# Altium schematic symbol library lib-ic.SchLib: 64 symbols
Pins are listed as number, name and electrical type; pins without a type are passive.

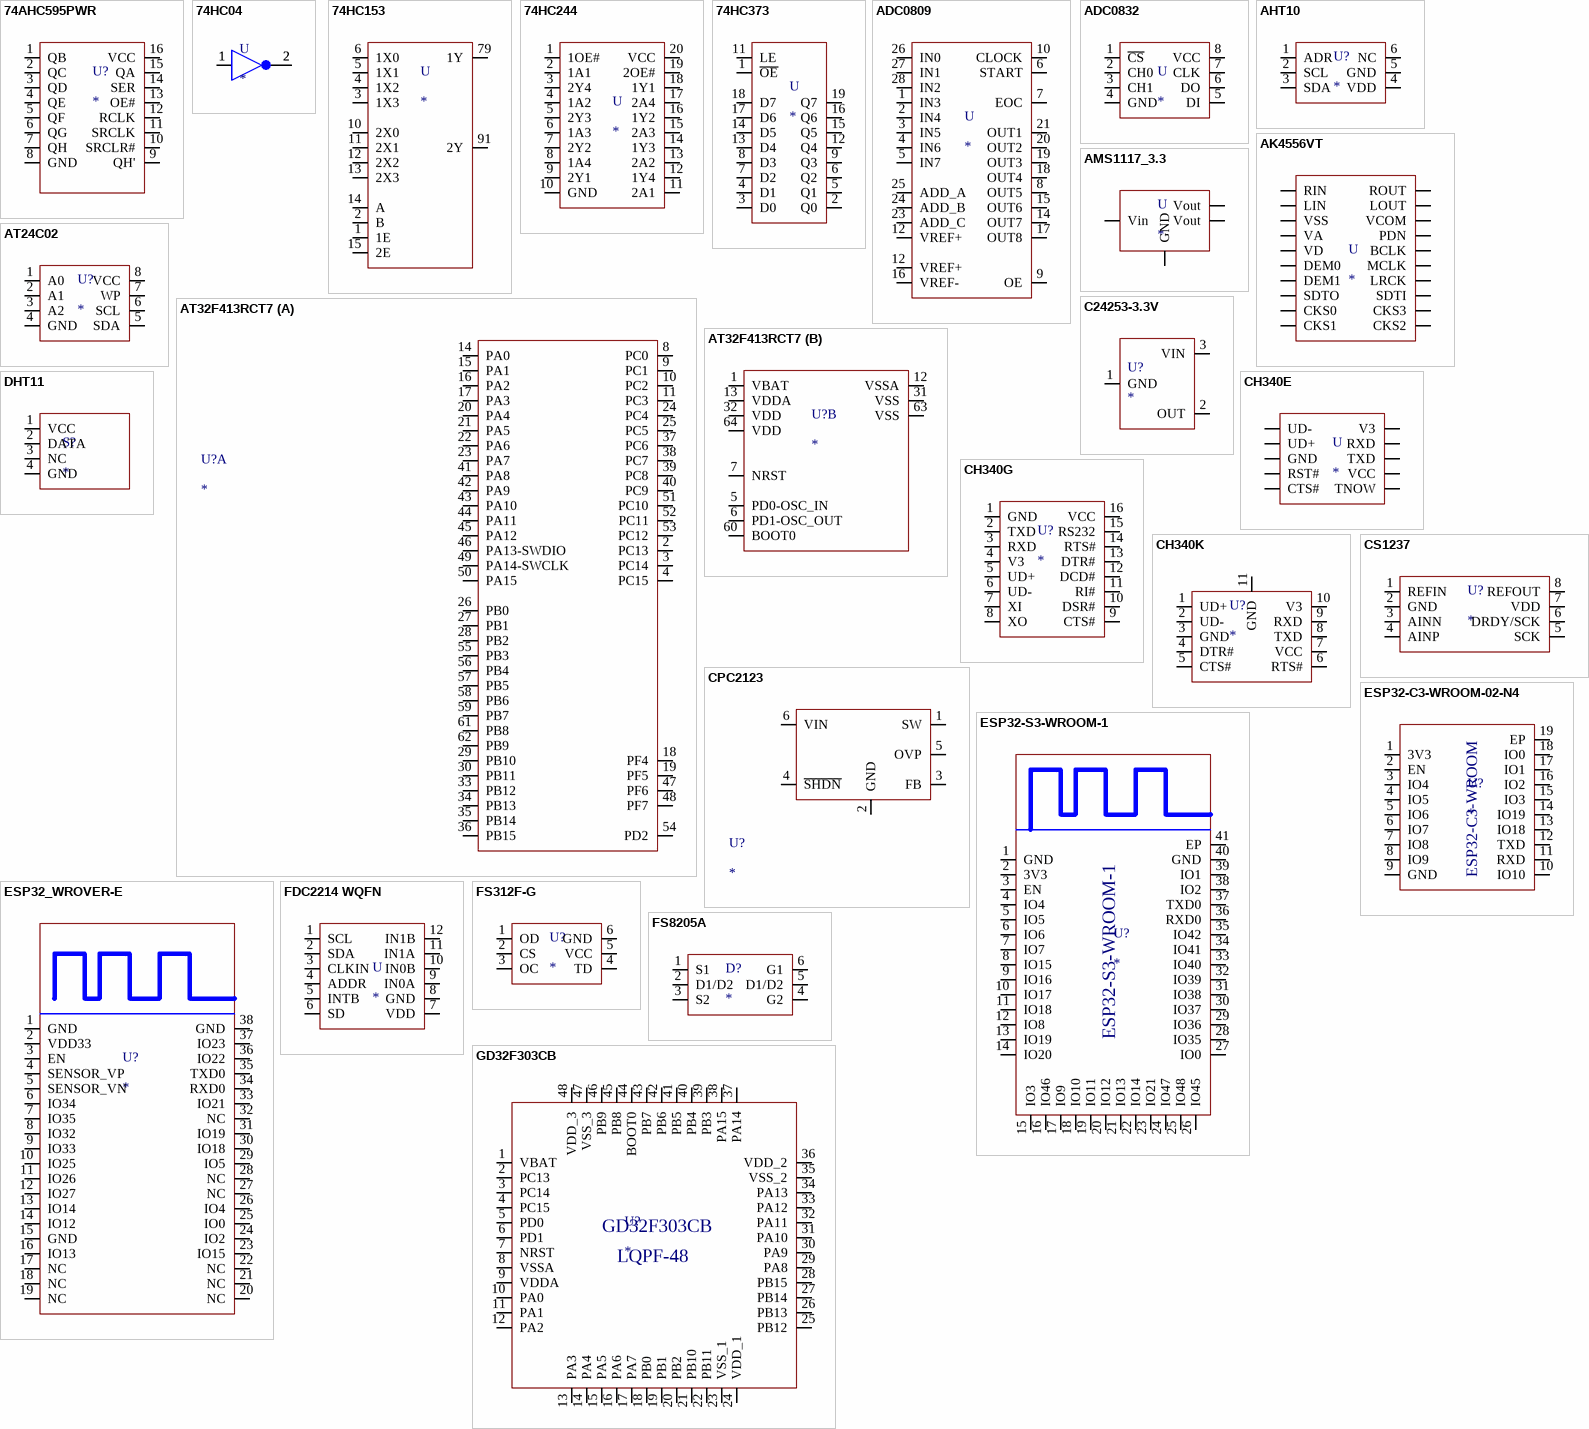
[diagram p0: symbols 74AHC595PWR to GD32F303CB]

## 74AHC595PWR
designator U?
SN74AHCT595DR-C133793; ComponentLink1Description: New link; ComponentLink1URL: https://item.szlcsc.com/145100.html
footprint SOIC_16
pins: 1 QB, 2 QC, 3 QD, 4 QE, 5 QF, 6 QG, 7 QH, 8 GND, 9 QH', 10 SRCLR#, 11 SRCLK, 12 RCLK, 13 OE#, 14 SER, 15 QA, 16 VCC

## 74HC04
designator U
pins: 1, 1, 2, 2

## 74HC153
designator U
pins: 1 1E, 2 B, 3 1X3, 4 1X2, 5 1X1, 6 1X0, 10 2X0, 11 2X1, 12 2X2, 13 2X3, 14 A, 15 2E, 79 1Y, 91 2Y

## 74HC244
designator U
SN74HC244DWR
footprint SOIC_20_5.3
pins: 1 1OE#, 2 1A1, 3 2Y4, 4 1A2, 5 2Y3, 6 1A3, 7 2Y2, 8 1A4, 9 2Y1, 10 GND, 11 2A1, 12 1Y4, 13 2A2, 14 1Y3, 15 2A3, 16 1Y2, 17 2A4, 18 1Y1, 19 2OE#, 20 VCC

## 74HC373
designator U
pins: 1 ~{OE}, 2 Q0, 3 D0, 4 D1, 5 Q1, 6 Q2, 7 D2, 8 D3, 9 Q3, 11 LE, 12 Q4, 13 D4, 14 D5, 15 Q5, 16 Q6, 17 D6, 18 D7, 19 Q7

## ADC0809
designator U
pins: 1 IN3, 2 IN4, 3 IN5, 4 IN6, 5 IN7, 6 START, 7 EOC, 8 OUT5, 9 OE, 10 CLOCK, 12 VREF+, 12 VREF+, 14 OUT7, 15 OUT6, 16 VREF-, 17 OUT8, 18 OUT4, 19 OUT3, 20 OUT2, 21 OUT1, 23 ADD_C, 24 ADD_B, 25 ADD_A, 26 IN0, 27 IN1, 28 IN2

## ADC0832
designator U
IC-ADC
pins: 1 ~{CS}, 2 CH0, 3 CH1, 4 GND, 5 DI, 6 DO, 7 CLK, 8 VCC

## AHT10
designator U?
立创商城-C368909
footprint AHT10
pins: 1 ADR, 2 SCL, 3 SDA, 4 VDD, 5 GND, 6 NC

## AK4556VT
designator U
I2S/AD/DA
footprint SSOP_20 (0.65)
pins: 1 RIN, 2 LIN, 3 VSS, 4 VA, 5 VD, 6 DEM0, 7 DEM1, 8 SDTO, 9 CKS0, 10 CKS1, 11 CKS2, 12 CKS3, 13 SDTI, 14 LRCK, 15 MCLK, 16 BCLK, 17 PDN, 18 VCOM, 19 LOUT, 20 ROUT

## AMS1117_3.3
designator U
LDO  3.3v
footprint SOT223_3
pins: 1 GND, 2 Vout, 3 Vin, 4 Vout

## AT24C02
designator U?
立创商城-C688857
footprint SOP_8 (SOP, 8-Leads, Body 5.05x3.90mm, Pitch 1.27mm, IPC Medium Density)
pins: 1 A0, 2 A1, 3 A2, 4 GND, 5 SDA, 6 SCL, 7 WP, 8 VCC

## AT32F413RCT7
designator U?
雅特力-MCU
footprint LQFP_64_10X10
part A pins: 2 PC13, 3 PC14, 4 PC15, 8 PC0, 9 PC1, 10 PC2, 11 PC3, 14 PA0, 15 PA1, 16 PA2, 17 PA3, 18 PF4, 19 PF5, 20 PA4, 21 PA5, 22 PA6, 23 PA7, 24 PC4, 25 PC5, 26 PB0, 27 PB1, 28 PB2, 29 PB10, 30 PB11, 33 PB12, 34 PB13, 35 PB14, 36 PB15, 37 PC6, 38 PC7, 39 PC8, 40 PC9, 41 PA8, 42 PA9, 43 PA10, 44 PA11, 45 PA12, 46 PA13-SWDIO, 47 PF6, 48 PF7, 49 PA14-SWCLK, 50 PA15, 51 PC10, 52 PC11, 53 PC12, 54 PD2, 55 PB3, 56 PB4, 57 PB5, 58 PB6, 59 PB7, 61 PB8, 62 PB9
part B pins: 1 VBAT, 5 PD0-OSC_IN, 6 PD1-OSC_OUT, 7 NRST, 12 VSSA, 13 VDDA, 31 VSS, 32 VDD, 60 BOOT0, 63 VSS, 64 VDD

## C24253-3.3V
designator U?
立创商城-C24253
footprint SOT89
pins: 1 GND, 2 OUT, 3 VIN

## CH340E
designator U
USB->TTL
footprint TSSOP_10 (0.5)
pins: 1 UD+, 2 UD-, 3 GND, 4 RST#, 5 CTS#, 6 TNOW, 7 VCC, 8 TXD, 9 RXD, 10 V3

## CH340G
designator U?
USB->TTL
footprint SOIC_16
pins: 1 GND (power), 2 TXD, 3 RXD, 4 V3, 5 UD+, 6 UD-, 7 XI, 8 XO, 9 CTS#, 10 DSR#, 11 RI#, 12 DCD#, 13 DTR#, 14 RTS#, 15 RS232, 16 VCC (power)

## CH340K
designator U?
USB->TTL
footprint ESSOP-10-150mil-1mm
pins: 1 UD+, 2 UD-, 3 GND, 4 DTR#, 5 CTS#, 6 RTS#, 7 VCC, 8 TXD, 9 RXD, 10 V3, 11 GND

## CPC2123
designator U?
DC-DC LED
footprint SOT23_6
pins: 1 SW, 2 GND, 3 FB, 4 ~{SHDN}, 5 OVP, 6 VIN

## CS1237
designator U?
立创商城-C77801
footprint SOIC_8
pins: 1 REFIN, 2 GND, 3 AINN, 4 AINP, 5 SCK, 6 DRDY/SCK, 7 VDD, 8 REFOUT

## DHT11
designator S?
footprint DHT11
pins: 1 VCC, 2 DATA, 3 NC, 4 GND

## ESP32-C3-WROOM-02-N4
designator U?
ESP32-C3-WROOM-02-N4
footprint ESP32-C3-WROOM-02-N4
pins: 1 3V3, 2 EN, 3 IO4, 4 IO5, 5 IO6, 6 IO7, 7 IO8, 8 IO9, 9 GND, 10 IO10, 11 RXD, 12 TXD, 13 IO18, 14 IO19, 15 IO3, 16 IO2, 17 IO1, 18 IO0, 19 EP
text: ESP32-C3-WROOM

## ESP32-S3-WROOM-1
designator U?
乐鑫 ESP32-S3 模组
footprint ESP32-S3-WROOM-1
pins: 1 GND, 2 3V3, 3 EN, 4 IO4, 5 IO5, 6 IO6, 7 IO7, 8 IO15, 9 IO16, 10 IO17, 11 IO18, 12 IO8, 13 IO19, 14 IO20, 15 IO3, 16 IO46, 17 IO9, 18 IO10, 19 IO11, 20 IO12, 21 IO13, 22 IO14, 23 IO21, 24 IO47, 25 IO48, 26 IO45, 27 IO0, 28 IO35, 29 IO36, 30 IO37, 31 IO38, 32 IO39, 33 IO40, 34 IO41, 35 IO42, 36 RXD0, 37 TXD0, 38 IO2, 39 IO1, 40 GND, 41 EP

## ESP32_WROVER-E
designator U?
乐鑫 ESP32 模组
footprint ESP32_WROVER-E
pins: 1 GND, 2 VDD33, 3 EN, 4 SENSOR_VP, 5 SENSOR_VN, 6 IO34, 7 IO35, 8 IO32, 9 IO33, 10 IO25, 11 IO26, 12 IO27, 13 IO14, 14 IO12, 15 GND, 16 IO13, 17 NC, 18 NC, 19 NC, 20 NC, 21 NC, 22 NC, 23 IO15, 24 IO2, 25 IO0, 26 IO4, 27 NC, 28 NC, 29 IO5, 30 IO18, 31 IO19, 32 NC, 33 IO21, 34 RXD0, 35 TXD0, 36 IO22, 37 IO23, 38 GND

## FDC2214 WQFN
designator U
pins: 1 SCL, 2 SDA, 3 CLKIN, 4 ADDR, 5 INTB, 6 SD, 7 VDD, 8 GND, 9 IN0A, 10 IN0B, 11 IN1A, 12 IN1B

## FS312F-G
designator U?
footprint SOT23_6
pins: 1 OD, 2 CS, 3 OC, 4 TD, 5 VCC, 6 GND

## FS8205A
designator D?
footprint SOT23_6
pins: 1 S1, 2 D1/D2, 3 S2, 4 G2, 5 D1/D2, 6 G1

## GD32F303CB
designator U?
GD32-MCU
pins: 1 VBAT, 2 PC13, 3 PC14, 4 PC15, 5 PD0, 6 PD1, 7 NRST, 8 VSSA, 9 VDDA, 10 PA0, 11 PA1, 12 PA2, 13 PA3, 14 PA4, 15 PA5, 16 PA6, 17 PA7, 18 PB0, 19 PB1, 20 PB2, 21 PB10, 22 PB11, 23 VSS_1, 24 VDD_1, 25 PB12, 26 PB13, 27 PB14, 28 PB15, 29 PA8, 30 PA9, 31 PA10, 32 PA11, 33 PA12, 34 PA13, 35 VSS_2, 36 VDD_2, 37 PA14, 38 PA15, 39 PB3, 40 PB4, 41 PB5, 42 PB6, 43 PB7, 44 BOOT0, 45 PB8, 46 PB9, 47 VSS_3, 48 VDD_3
text: LQPF-48

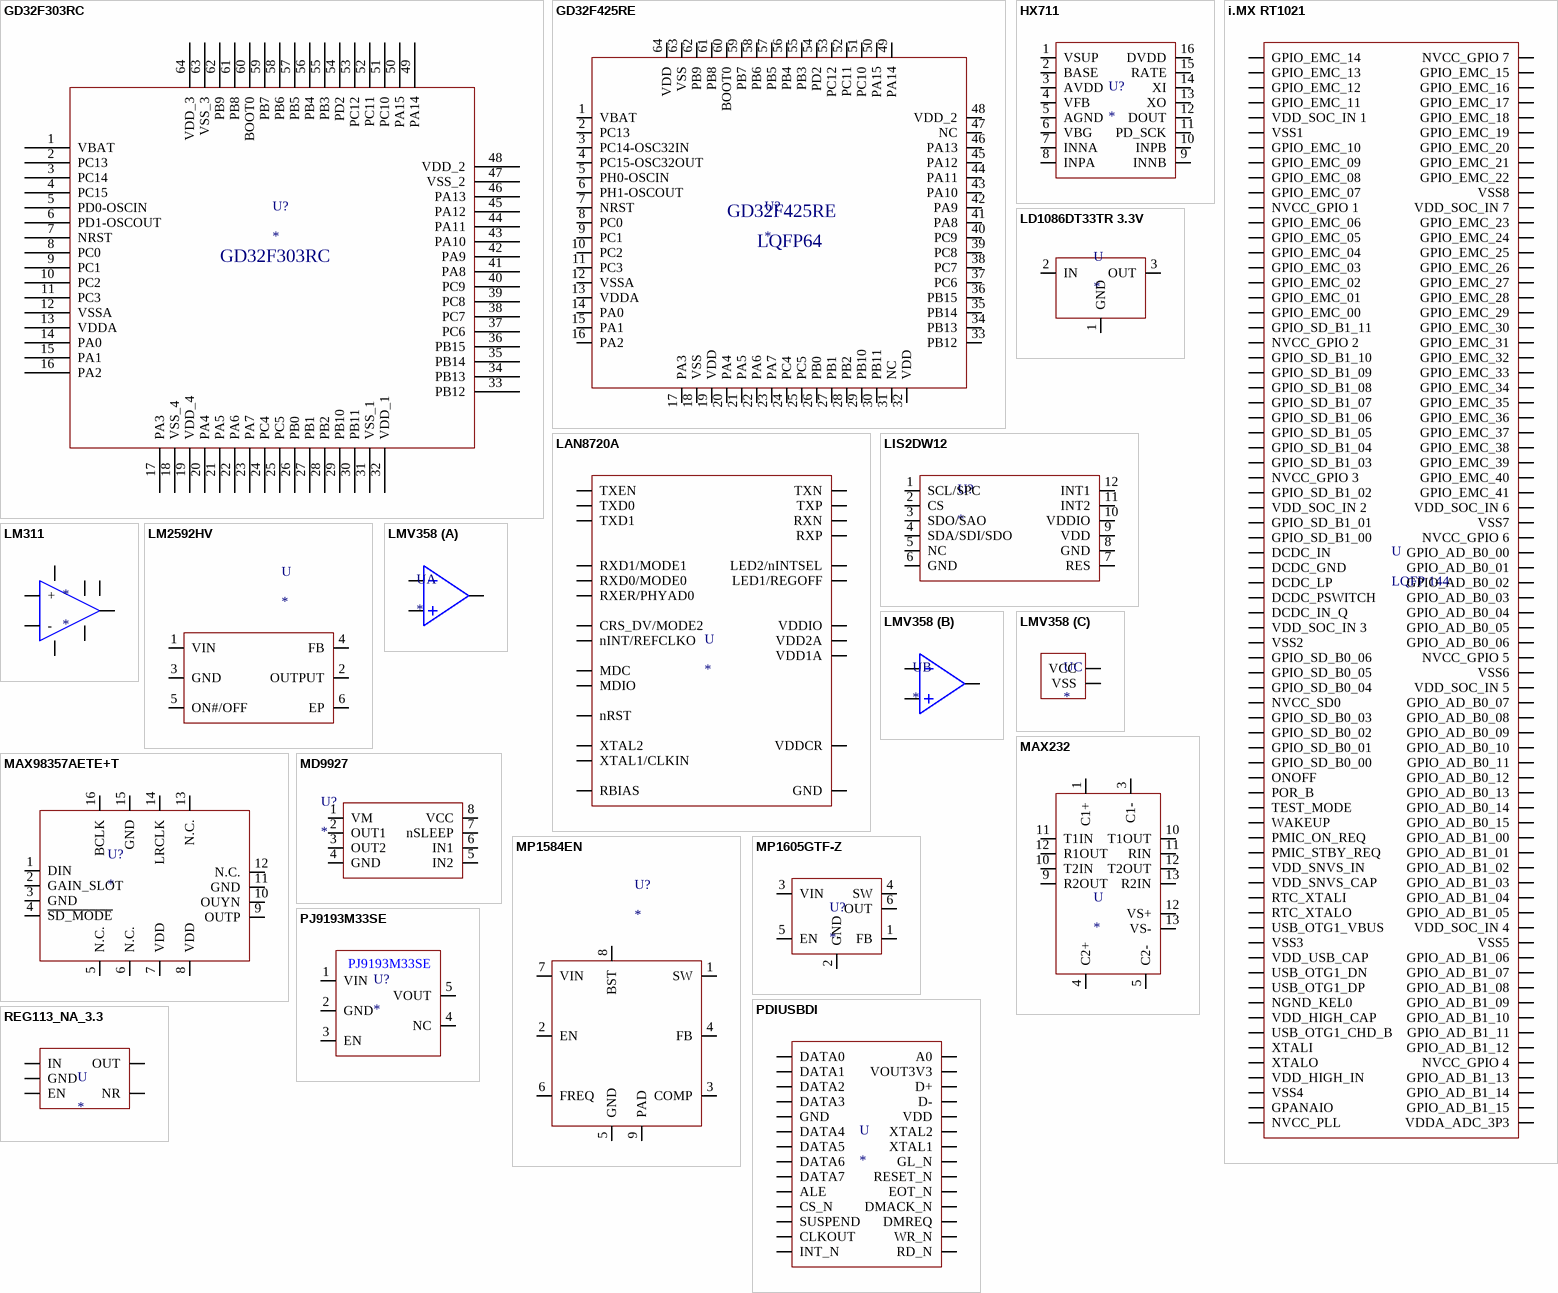
[diagram p1: symbols GD32F303RC to REG113_NA_3.3]

## GD32F303RC
designator U?
GD32-MCU
footprint LQFP_64_10X10
pins: 1 VBAT, 2 PC13, 3 PC14, 4 PC15, 5 PD0-OSCIN, 6 PD1-OSCOUT, 7 NRST, 8 PC0, 9 PC1, 10 PC2, 11 PC3, 12 VSSA, 13 VDDA, 14 PA0, 15 PA1, 16 PA2, 17 PA3, 18 VSS_4, 19 VDD_4, 20 PA4, 21 PA5, 22 PA6, 23 PA7, 24 PC4, 25 PC5, 26 PB0, 27 PB1, 28 PB2, 29 PB10, 30 PB11, 31 VSS_1, 32 VDD_1, 33 PB12, 34 PB13, 35 PB14, 36 PB15, 37 PC6, 38 PC7, 39 PC8, 40 PC9, 41 PA8, 42 PA9, 43 PA10, 44 PA11, 45 PA12, 46 PA13, 47 VSS_2, 48 VDD_2, 49 PA14, 50 PA15, 51 PC10, 52 PC11, 53 PC12, 54 PD2, 55 PB3, 56 PB4, 57 PB5, 58 PB6, 59 PB7, 60 BOOT0, 61 PB8, 62 PB9, 63 VSS_3, 64 VDD_3

## GD32F425RE
designator U?
GD32-MCU
footprint LQFP_64_10X10
pins: 1 VBAT, 2 PC13, 3 PC14-OSC32IN, 4 PC15-OSC32OUT, 5 PH0-OSCIN, 6 PH1-OSCOUT, 7 NRST, 8 PC0, 9 PC1, 10 PC2, 11 PC3, 12 VSSA, 13 VDDA, 14 PA0, 15 PA1, 16 PA2, 17 PA3, 18 VSS, 19 VDD, 20 PA4, 21 PA5, 22 PA6, 23 PA7, 24 PC4, 25 PC5, 26 PB0, 27 PB1, 28 PB2, 29 PB10, 30 PB11, 31 NC, 32 VDD, 33 PB12, 34 PB13, 35 PB14, 36 PB15, 37 PC6, 38 PC7, 39 PC8, 40 PC9, 41 PA8, 42 PA9, 43 PA10, 44 PA11, 45 PA12, 46 PA13, 47 NC, 48 VDD_2, 49 PA14, 50 PA15, 51 PC10, 52 PC11, 53 PC12, 54 PD2, 55 PB3, 56 PB4, 57 PB5, 58 PB6, 59 PB7, 60 BOOT0, 61 PB8, 62 PB9, 63 VSS, 64 VDD
text: LQFP64

## HX711
designator U?
立创商城-C43656
footprint SOIC_16
pins: 1 VSUP, 2 BASE, 3 AVDD, 4 VFB, 5 AGND, 6 VBG, 7 INNA, 8 INPA, 9 INNB, 10 INPB, 11 PD_SCK, 12 DOUT, 13 XO, 14 XI, 15 RATE, 16 DVDD

## i.MX RT1021
designator U, comment LQFP 144
NXP-MCU
footprint LQFP_144_20X20
pins: 1 GPIO_EMC_14, 2 GPIO_EMC_13, 3 GPIO_EMC_12, 4 GPIO_EMC_11, 5 VDD_SOC_IN 1, 6 VSS1, 7 GPIO_EMC_10, 8 GPIO_EMC_09, 9 GPIO_EMC_08, 10 GPIO_EMC_07, 11 NVCC_GPIO 1, 12 GPIO_EMC_06, 13 GPIO_EMC_05, 14 GPIO_EMC_04, 15 GPIO_EMC_03, 16 GPIO_EMC_02, 17 GPIO_EMC_01, 18 GPIO_EMC_00, 19 GPIO_SD_B1_11, 20 NVCC_GPIO 2, 21 GPIO_SD_B1_10, 22 GPIO_SD_B1_09, 23 GPIO_SD_B1_08, 24 GPIO_SD_B1_07, 25 GPIO_SD_B1_06, 26 GPIO_SD_B1_05, 27 GPIO_SD_B1_04, 28 GPIO_SD_B1_03, 29 NVCC_GPIO 3, 30 GPIO_SD_B1_02, 31 VDD_SOC_IN 2, 32 GPIO_SD_B1_01, 33 GPIO_SD_B1_00, 34 DCDC_IN, 35 DCDC_GND, 36 DCDC_LP, 37 DCDC_PSWITCH, 38 DCDC_IN_Q, 39 VDD_SOC_IN 3, 40 VSS2, 41 GPIO_SD_B0_06, 42 GPIO_SD_B0_05, 43 GPIO_SD_B0_04, 44 NVCC_SD0, 45 GPIO_SD_B0_03, 46 GPIO_SD_B0_02, 47 GPIO_SD_B0_01, 48 GPIO_SD_B0_00, 49 ONOFF, 50 POR_B, 51 TEST_MODE, 52 WAKEUP, 53 PMIC_ON_REQ, 54 PMIC_STBY_REQ, 55 VDD_SNVS_IN, 56 VDD_SNVS_CAP, 57 RTC_XTALI, 58 RTC_XTALO, 59 USB_OTG1_VBUS, 60 VSS3, 61 VDD_USB_CAP, 62 USB_OTG1_DN, 63 USB_OTG1_DP, 64 NGND_KEL0, 65 VDD_HIGH_CAP, 66 USB_OTG1_CHD_B, 67 XTALI, 68 XTALO, 69 VDD_HIGH_IN, 70 VSS4, 71 GPANAIO, 72 NVCC_PLL, 73 VDDA_ADC_3P3, 74 GPIO_AD_B1_15, 75 GPIO_AD_B1_14, 76 GPIO_AD_B1_13, 77 NVCC_GPIO 4, 78 GPIO_AD_B1_12, 79 GPIO_AD_B1_11, 80 GPIO_AD_B1_10, 81 GPIO_AD_B1_09, 82 GPIO_AD_B1_08, 83 GPIO_AD_B1_07, 84 GPIO_AD_B1_06, 85 VSS5, 86 VDD_SOC_IN 4, 87 GPIO_AD_B1_05, 88 GPIO_AD_B1_04, 89 GPIO_AD_B1_03, 90 GPIO_AD_B1_02, 91 GPIO_AD_B1_01, 92 GPIO_AD_B1_00, 93 GPIO_AD_B0_15, 94 GPIO_AD_B0_14, 95 GPIO_AD_B0_13, 96 GPIO_AD_B0_12, 97 GPIO_AD_B0_11, 98 GPIO_AD_B0_10, 99 GPIO_AD_B0_09, 100 GPIO_AD_B0_08, 101 GPIO_AD_B0_07, 102 VDD_SOC_IN 5, 103 VSS6, 104 NVCC_GPIO 5, 105 GPIO_AD_B0_06, 106 GPIO_AD_B0_05, 107 GPIO_AD_B0_04, 108 GPIO_AD_B0_03, 109 GPIO_AD_B0_02, 110 GPIO_AD_B0_01, 111 GPIO_AD_B0_00, 112 NVCC_GPIO 6, 113 VSS7, 114 VDD_SOC_IN 6, 115 GPIO_EMC_41, 116 GPIO_EMC_40, 117 GPIO_EMC_39, 118 GPIO_EMC_38, 119 GPIO_EMC_37, 120 GPIO_EMC_36, 121 GPIO_EMC_35, 122 GPIO_EMC_34, 123 GPIO_EMC_33, 124 GPIO_EMC_32, 125 GPIO_EMC_31, 126 GPIO_EMC_30, 127 GPIO_EMC_29, 128 GPIO_EMC_28, 129 GPIO_EMC_27, 130 GPIO_EMC_26, 131 GPIO_EMC_25, 132 GPIO_EMC_24, 133 GPIO_EMC_23, 134 VDD_SOC_IN 7, 135 VSS8, 136 GPIO_EMC_22, 137 GPIO_EMC_21, 138 GPIO_EMC_20, 139 GPIO_EMC_19, 140 GPIO_EMC_18, 141 GPIO_EMC_17, 142 GPIO_EMC_16, 143 GPIO_EMC_15, 144 NVCC_GPIO 7

## LAN8720A
designator U
LAN 以太网
footprint QFN25 (QFN, 24-Leads, Body 4.80x4.80mm, Pitch 0.50mm, Thermal Pad 2.60x2.70mm, IPC Medium Density)
pins: 1 VDD2A, 2 LED2/nINTSEL, 3 LED1/REGOFF, 4 XTAL2, 5 XTAL1/CLKIN, 6 VDDCR, 7 RXD1/MODE1, 8 RXD0/MODE0, 9 VDDIO, 10 RXER/PHYAD0, 11 CRS_DV/MODE2, 12 MDIO, 13 MDC, 14 nINT/REFCLKO, 15 nRST, 16 TXEN, 17 TXD0, 18 TXD1, 19 VDD1A, 20 TXN, 21 TXP, 22 RXN, 23 RXP, 24 RBIAS, 25 GND

## LD1086DT33TR 3.3V
designator U
LDO ST 3.3V C12051
footprint TO252_2
pins: 1 GND, 2 IN, 3 OUT

## LIS2DW12
designator U?
加速度计-立创商城C189624
footprint LIS2DW12 (LGA-12(2x2))
pins: 1 SCL/SPC, 2 CS, 3 SDO/SAO, 4 SDA/SDI/SDO, 5 NC, 6 GND, 7 RES, 8 GND, 9 VDD, 10 VDDIO, 11 INT2, 12 INT1

## LM311
designator *
pins: 1, 2 +, 3 -, 4, 5, 6, 7, 8 6

## LM2592HV
designator U
TI DCDC ADJ_5V C477973
pins: 1 VIN, 2 OUTPUT, 3 GND, 4 FB, 5 ON#/OFF, 6 EP

## LMV358
designator U
轨对轨运放
footprint SOIC_8
part A pins: 1 AOUT, 2 A-, 3 A+
part B pins: 5 B+, 6 B-, 7 BOUT
part C pins: 4 VSS, 8 VCC

## MAX232
designator U
pins: 1 C1+, 3 C1-, 4 C2+, 5 C2-, 9 R2OUT, 10 T2IN, 10 T1OUT, 11 T1IN, 11 RIN, 12 R1OUT, 12 T2OUT, 12 VS+, 13 R2IN, 13 VS-

## MAX98357AETE+T
designator U?
pins: 1 DIN, 2 GAIN_SLOT, 3 GND, 4 ~{SD_MODE}, 5 N.C., 6 N.C., 7 VDD, 8 VDD, 9 OUTP, 10 OUYN, 11 GND, 12 N.C., 13 N.C., 14 LRCLK, 15 GND, 16 BCLK

## MD9927
designator U?
电机驱动IC 立创-C2684787
footprint SOIC_8
pins: 1 VM, 2 OUT1, 3 OUT2, 4 GND, 5 IN2, 6 IN1, 7 nSLEEP, 8 VCC

## MP1584EN
designator U?
电源IC
footprint SOIC_8
pins: 1 SW, 2 EN, 3 COMP, 4 FB, 5 GND, 6 FREQ, 7 VIN, 8 BST, 9 PAD

## MP1605GTF-Z
designator U?
DC-DC电源芯片 立创商城-C5129836
footprint SOT-563
pins: 1 FB, 2 GND, 3 VIN, 4 SW, 5 EN, 6 OUT

## PDIUSBDI
designator U
USB-IC
footprint TSSOP_28 (0.65)
pins: 1 DATA0, 2 DATA1, 3 DATA2, 4 DATA3, 5 GND, 6 DATA4, 7 DATA5, 8 DATA6, 9 DATA7, 10 ALE, 11 CS_N, 12 SUSPEND, 13 CLKOUT, 14 INT_N, 15 RD_N, 16 WR_N, 17 DMREQ, 18 DMACK_N, 19 EOT_N, 20 RESET_N, 21 GL_N, 22 XTAL1, 23 XTAL2, 24 VDD, 25 D-, 26 D+, 27 VOUT3V3, 28 A0

## PJ9193M33SE
designator U?
LDO C686644
footprint SOT23_5
pins: 1 VIN, 2 GND, 3 EN, 4 NC, 5 VOUT

## REG113_NA_3.3
designator U
LDO
footprint SOT23_5
pins: 1 IN, 2 GND, 3 EN, 4 NR, 5 OUT

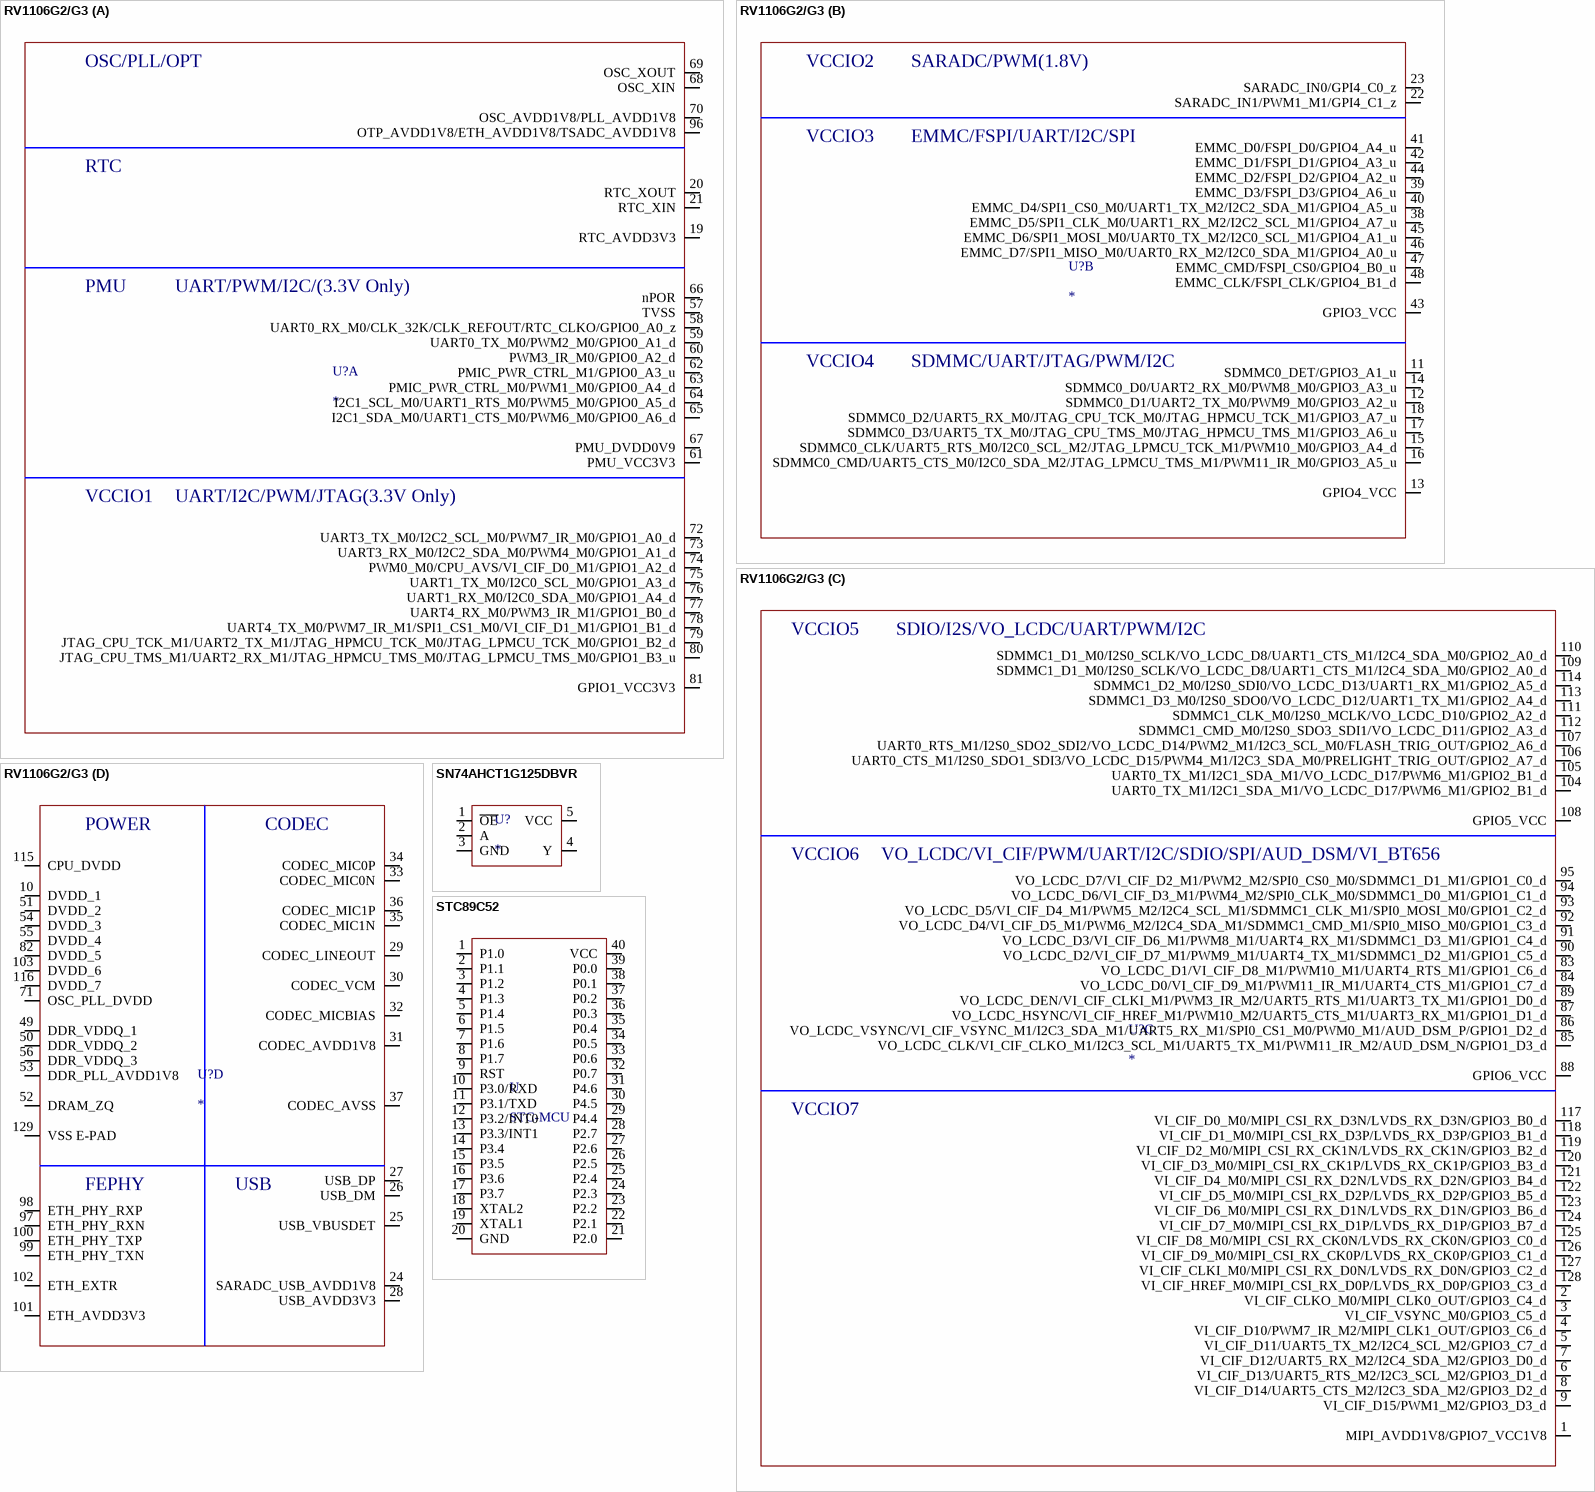
[diagram p2: symbols RV1106G2/G3 to STC89C52]

## RV1106G2/G3
designator U?
瑞芯微 RV1106
footprint QFN-128
part A pins: 19 RTC_AVDD3V3, 20 RTC_XOUT, 21 RTC_XIN, 57 TVSS, 58 UART0_RX_M0/CLK_32K/CLK_REFOUT/RTC_CLKO/GPIO0_A0_z, 59 UART0_TX_M0/PWM2_M0/GPIO0_A1_d, 60 PWM3_IR_M0/GPIO0_A2_d, 61 PMU_VCC3V3, 62 PMIC_PWR_CTRL_M1/GPIO0_A3_u, 63 PMIC_PWR_CTRL_M0/PWM1_M0/GPIO0_A4_d, 64 I2C1_SCL_M0/UART1_RTS_M0/PWM5_M0/GPIO0_A5_d, 65 I2C1_SDA_M0/UART1_CTS_M0/PWM6_M0/GPIO0_A6_d, 66 nPOR, 67 PMU_DVDD0V9, 68 OSC_XIN, 69 OSC_XOUT, 70 OSC_AVDD1V8/PLL_AVDD1V8, 72 UART3_TX_M0/I2C2_SCL_M0/PWM7_IR_M0/GPIO1_A0_d, 73 UART3_RX_M0/I2C2_SDA_M0/PWM4_M0/GPIO1_A1_d, 74 PWM0_M0/CPU_AVS/VI_CIF_D0_M1/GPIO1_A2_d, 75 UART1_TX_M0/I2C0_SCL_M0/GPIO1_A3_d, 76 UART1_RX_M0/I2C0_SDA_M0/GPIO1_A4_d, 77 UART4_RX_M0/PWM3_IR_M1/GPIO1_B0_d, 78 UART4_TX_M0/PWM7_IR_M1/SPI1_CS1_M0/VI_CIF_D1_M1/GPIO1_B1_d, 79 JTAG_CPU_TCK_M1/UART2_TX_M1/JTAG_HPMCU_TCK_M0/JTAG_LPMCU_TCK_M0/GPIO1_B2_d, 80 JTAG_CPU_TMS_M1/UART2_RX_M1/JTAG_HPMCU_TMS_M0/JTAG_LPMCU_TMS_M0/GPIO1_B3_u, 81 GPIO1_VCC3V3, 96 OTP_AVDD1V8/ETH_AVDD1V8/TSADC_AVDD1V8
part B pins: 11 SDMMC0_DET/GPIO3_A1_u, 12 SDMMC0_D1/UART2_TX_M0/PWM9_M0/GPIO3_A2_u, 13 GPIO4_VCC, 14 SDMMC0_D0/UART2_RX_M0/PWM8_M0/GPIO3_A3_u, 15 SDMMC0_CLK/UART5_RTS_M0/I2C0_SCL_M2/JTAG_LPMCU_TCK_M1/PWM10_M0/GPIO3_A4_d, 16 SDMMC0_CMD/UART5_CTS_M0/I2C0_SDA_M2/JTAG_LPMCU_TMS_M1/PWM11_IR_M0/GPIO3_A5_u, 17 SDMMC0_D3/UART5_TX_M0/JTAG_CPU_TMS_M0/JTAG_HPMCU_TMS_M1/GPIO3_A6_u, 18 SDMMC0_D2/UART5_RX_M0/JTAG_CPU_TCK_M0/JTAG_HPMCU_TCK_M1/GPIO3_A7_u, 22 SARADC_IN1/PWM1_M1/GPI4_C1_z, 23 SARADC_IN0/GPI4_C0_z, 38 EMMC_D5/SPI1_CLK_M0/UART1_RX_M2/I2C2_SCL_M1/GPIO4_A7_u, 39 EMMC_D3/FSPI_D3/GPIO4_A6_u, 40 EMMC_D4/SPI1_CS0_M0/UART1_TX_M2/I2C2_SDA_M1/GPIO4_A5_u, 41 EMMC_D0/FSPI_D0/GPIO4_A4_u, 42 EMMC_D1/FSPI_D1/GPIO4_A3_u, 43 GPIO3_VCC, 44 EMMC_D2/FSPI_D2/GPIO4_A2_u, 45 EMMC_D6/SPI1_MOSI_M0/UART0_TX_M2/I2C0_SCL_M1/GPIO4_A1_u, 46 EMMC_D7/SPI1_MISO_M0/UART0_RX_M2/I2C0_SDA_M1/GPIO4_A0_u, 47 EMMC_CMD/FSPI_CS0/GPIO4_B0_u, 48 EMMC_CLK/FSPI_CLK/GPIO4_B1_d
part C pins: 1 MIPI_AVDD1V8/GPIO7_VCC1V8, 2 VI_CIF_CLKO_M0/MIPI_CLK0_OUT/GPIO3_C4_d, 3 VI_CIF_VSYNC_M0/GPIO3_C5_d, 4 VI_CIF_D10/PWM7_IR_M2/MIPI_CLK1_OUT/GPIO3_C6_d, 5 VI_CIF_D11/UART5_TX_M2/I2C4_SCL_M2/GPIO3_C7_d, 6 VI_CIF_D13/UART5_RTS_M2/I2C3_SCL_M2/GPIO3_D1_d, 7 VI_CIF_D12/UART5_RX_M2/I2C4_SDA_M2/GPIO3_D0_d, 8 VI_CIF_D14/UART5_CTS_M2/I2C3_SDA_M2/GPIO3_D2_d, 9 VI_CIF_D15/PWM1_M2/GPIO3_D3_d, 83 VO_LCDC_D1/VI_CIF_D8_M1/PWM10_M1/UART4_RTS_M1/GPIO1_C6_d, 84 VO_LCDC_D0/VI_CIF_D9_M1/PWM11_IR_M1/UART4_CTS_M1/GPIO1_C7_d, 85 VO_LCDC_CLK/VI_CIF_CLKO_M1/I2C3_SCL_M1/UART5_TX_M1/PWM11_IR_M2/AUD_DSM_N/GPIO1_D3_d, 86 VO_LCDC_VSYNC/VI_CIF_VSYNC_M1/I2C3_SDA_M1/UART5_RX_M1/SPI0_CS1_M0/PWM0_M1/AUD_DSM_P/GPIO1_D2_d, 87 VO_LCDC_HSYNC/VI_CIF_HREF_M1/PWM10_M2/UART5_CTS_M1/UART3_RX_M1/GPIO1_D1_d, 88 GPIO6_VCC, 89 VO_LCDC_DEN/VI_CIF_CLKI_M1/PWM3_IR_M2/UART5_RTS_M1/UART3_TX_M1/GPIO1_D0_d, 90 VO_LCDC_D2/VI_CIF_D7_M1/PWM9_M1/UART4_TX_M1/SDMMC1_D2_M1/GPIO1_C5_d, 91 VO_LCDC_D3/VI_CIF_D6_M1/PWM8_M1/UART4_RX_M1/SDMMC1_D3_M1/GPIO1_C4_d, 92 VO_LCDC_D4/VI_CIF_D5_M1/PWM6_M2/I2C4_SDA_M1/SDMMC1_CMD_M1/SPI0_MISO_M0/GPIO1_C3_d, 93 VO_LCDC_D5/VI_CIF_D4_M1/PWM5_M2/I2C4_SCL_M1/SDMMC1_CLK_M1/SPI0_MOSI_M0/GPIO1_C2_d, 94 VO_LCDC_D6/VI_CIF_D3_M1/PWM4_M2/SPI0_CLK_M0/SDMMC1_D0_M1/GPIO1_C1_d, 95 VO_LCDC_D7/VI_CIF_D2_M1/PWM2_M2/SPI0_CS0_M0/SDMMC1_D1_M1/GPIO1_C0_d, 104 UART0_TX_M1/I2C1_SDA_M1/VO_LCDC_D17/PWM6_M1/GPIO2_B1_d, 105 UART0_TX_M1/I2C1_SDA_M1/VO_LCDC_D17/PWM6_M1/GPIO2_B1_d, 106 UART0_CTS_M1/I2S0_SDO1_SDI3/VO_LCDC_D15/PWM4_M1/I2C3_SDA_M0/PRELIGHT_TRIG_OUT/GPIO2_A7_d, 107 UART0_RTS_M1/I2S0_SDO2_SDI2/VO_LCDC_D14/PWM2_M1/I2C3_SCL_M0/FLASH_TRIG_OUT/GPIO2_A6_d, 108 GPIO5_VCC, 109 SDMMC1_D1_M0/I2S0_SCLK/VO_LCDC_D8/UART1_CTS_M1/I2C4_SDA_M0/GPIO2_A0_d, 110 SDMMC1_D1_M0/I2S0_SCLK/VO_LCDC_D8/UART1_CTS_M1/I2C4_SDA_M0/GPIO2_A0_d, 111 SDMMC1_CLK_M0/I2S0_MCLK/VO_LCDC_D10/GPIO2_A2_d, 112 SDMMC1_CMD_M0/I2S0_SDO3_SDI1/VO_LCDC_D11/GPIO2_A3_d, 113 SDMMC1_D3_M0/I2S0_SDO0/VO_LCDC_D12/UART1_TX_M1/GPIO2_A4_d, 114 SDMMC1_D2_M0/I2S0_SDI0/VO_LCDC_D13/UART1_RX_M1/GPIO2_A5_d, 117 VI_CIF_D0_M0/MIPI_CSI_RX_D3N/LVDS_RX_D3N/GPIO3_B0_d, 118 VI_CIF_D1_M0/MIPI_CSI_RX_D3P/LVDS_RX_D3P/GPIO3_B1_d, 119 VI_CIF_D2_M0/MIPI_CSI_RX_CK1N/LVDS_RX_CK1N/GPIO3_B2_d, 120 VI_CIF_D3_M0/MIPI_CSI_RX_CK1P/LVDS_RX_CK1P/GPIO3_B3_d, 121 VI_CIF_D4_M0/MIPI_CSI_RX_D2N/LVDS_RX_D2N/GPIO3_B4_d, 122 VI_CIF_D5_M0/MIPI_CSI_RX_D2P/LVDS_RX_D2P/GPIO3_B5_d, 123 VI_CIF_D6_M0/MIPI_CSI_RX_D1N/LVDS_RX_D1N/GPIO3_B6_d, 124 VI_CIF_D7_M0/MIPI_CSI_RX_D1P/LVDS_RX_D1P/GPIO3_B7_d, 125 VI_CIF_D8_M0/MIPI_CSI_RX_CK0N/LVDS_RX_CK0N/GPIO3_C0_d, 126 VI_CIF_D9_M0/MIPI_CSI_RX_CK0P/LVDS_RX_CK0P/GPIO3_C1_d, 127 VI_CIF_CLKI_M0/MIPI_CSI_RX_D0N/LVDS_RX_D0N/GPIO3_C2_d, 128 VI_CIF_HREF_M0/MIPI_CSI_RX_D0P/LVDS_RX_D0P/GPIO3_C3_d
part D pins: 10 DVDD_1, 24 SARADC_USB_AVDD1V8, 25 USB_VBUSDET, 26 USB_DM, 27 USB_DP, 28 USB_AVDD3V3, 29 CODEC_LINEOUT, 30 CODEC_VCM, 31 CODEC_AVDD1V8, 32 CODEC_MICBIAS, 33 CODEC_MIC0N, 34 CODEC_MIC0P, 35 CODEC_MIC1N, 36 CODEC_MIC1P, 37 CODEC_AVSS, 49 DDR_VDDQ_1, 50 DDR_VDDQ_2, 51 DVDD_2, 52 DRAM_ZQ, 53 DDR_PLL_AVDD1V8, 54 DVDD_3, 55 DVDD_4, 56 DDR_VDDQ_3, 71 OSC_PLL_DVDD, 82 DVDD_5, 97 ETH_PHY_RXN, 98 ETH_PHY_RXP, 99 ETH_PHY_TXN, 100 ETH_PHY_TXP, 101 ETH_AVDD3V3, 102 ETH_EXTR, 103 DVDD_6, 115 CPU_DVDD, 116 DVDD_7, 129 VSS E-PAD
part A text: OSC/PLL/OPT; RTC; PMU; UART/PWM/I2C/(3.3V Only); VCCIO1; UART/I2C/PWM/JTAG(3.3V Only)
part B text: VCCIO2; SARADC/PWM(1.8V); VCCIO3; EMMC/FSPI/UART/I2C/SPI; VCCIO4; SDMMC/UART/JTAG/PWM/I2C
part C text: VCCIO5; SDIO/I2S/VO_LCDC/UART/PWM/I2C; VCCIO6; VO_LCDC/VI_CIF/PWM/UART/I2C/SDIO/SPI/AUD_DSM/VI_BT656; VCCIO7
part D text: POWER; CODEC; FEPHY; USB

## SN74AHCT1G125DBVR
designator U?
电平转换芯片 立创商城-C7484
footprint SOT23_5
pins: 1 ~{OE}, 2 A, 3 GND, 4 Y, 5 VCC

## STC89C52
designator U, comment STC-MCU
pins: 1 P1.0, 2 P1.1, 3 P1.2, 4 P1.3, 5 P1.4, 6 P1.5, 7 P1.6, 8 P1.7, 9 RST, 10 P3.0/RXD, 11 P3.1/TXD, 12 P3.2/INT0, 13 P3.3/INT1, 14 P3.4, 15 P3.5, 16 P3.6, 17 P3.7, 18 XTAL2, 19 XTAL1, 20 GND, 21 P2.0, 22 P2.1, 23 P2.2, 24 P2.3, 25 P2.4, 26 P2.5, 27 P2.6, 28 P2.7, 29 P4.4, 30 P4.5, 31 P4.6, 32 P0.7, 33 P0.6, 34 P0.5, 35 P0.4, 36 P0.3, 37 P0.2, 38 P0.1, 39 P0.0, 40 VCC

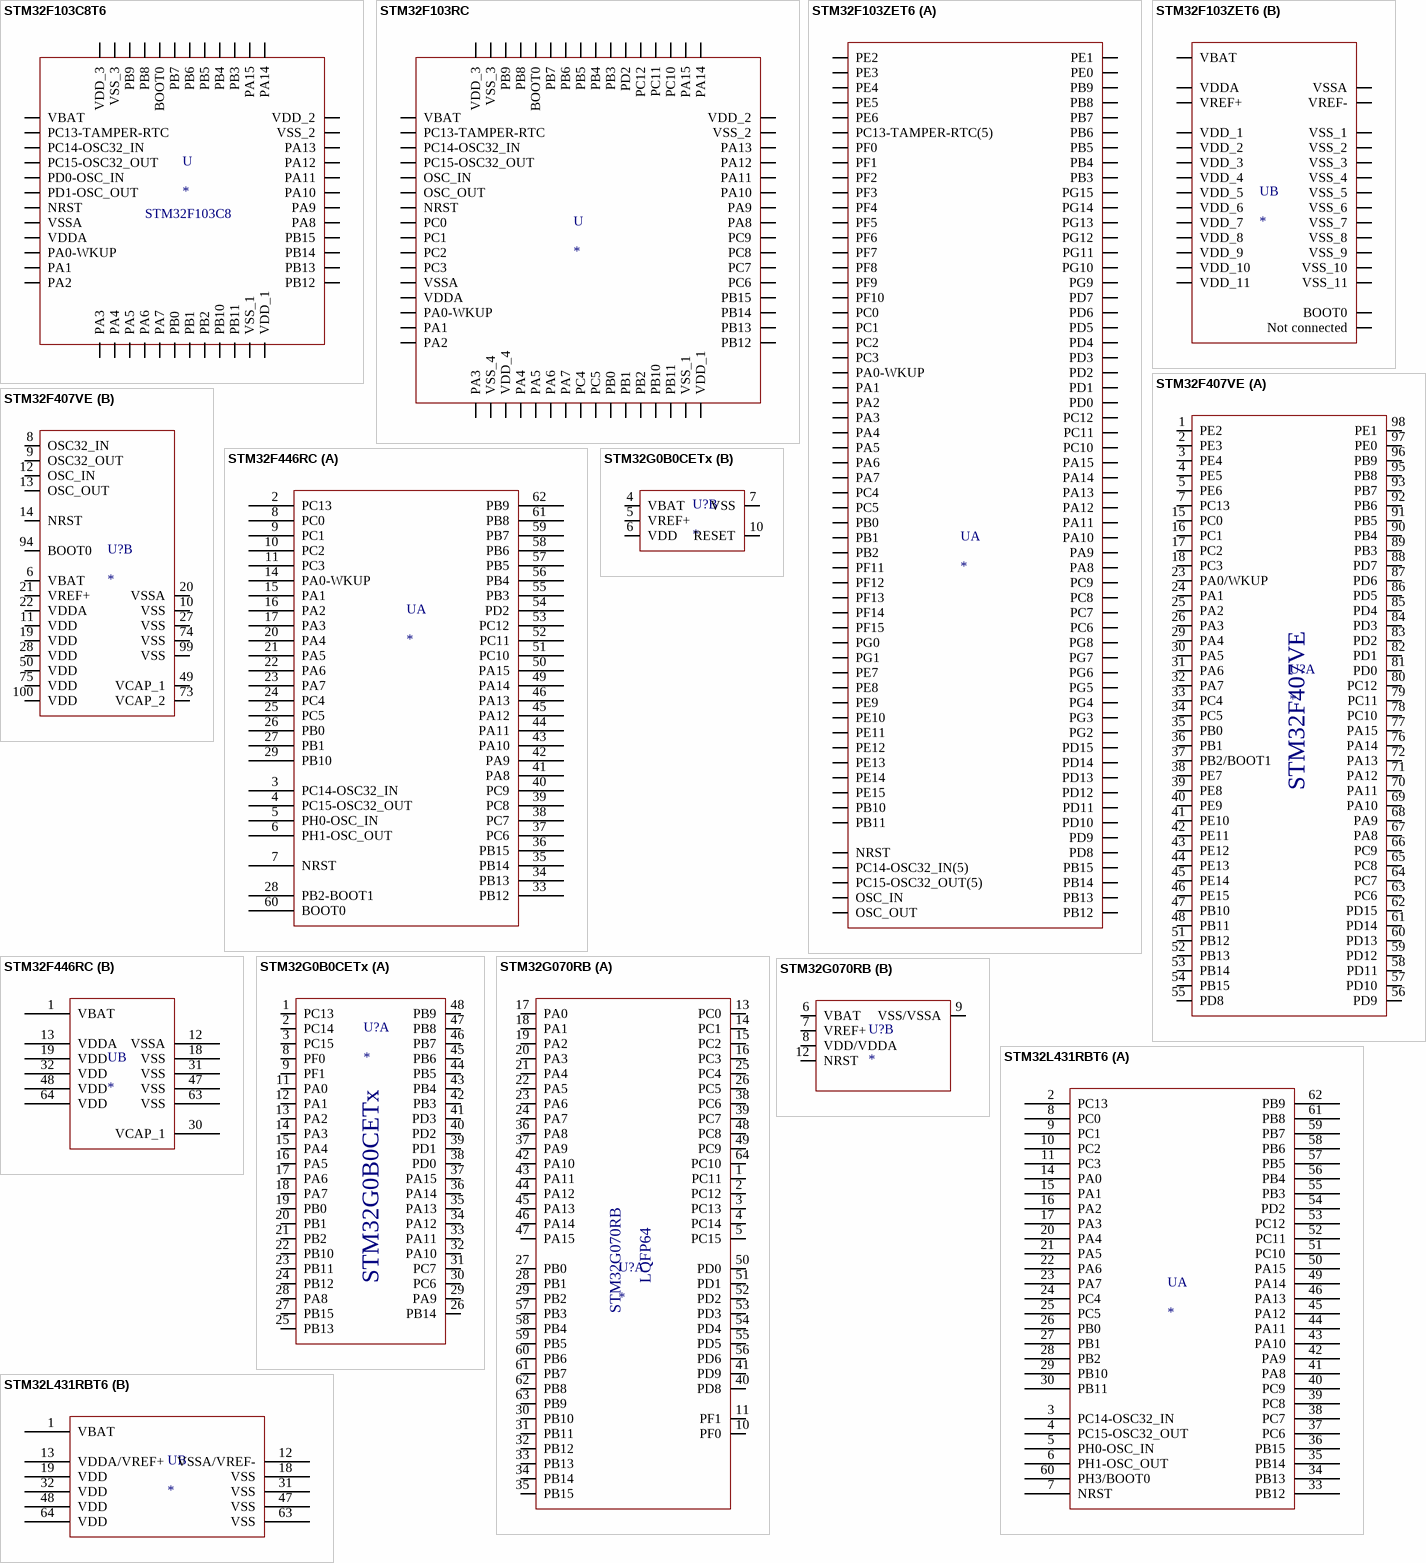
[diagram p3: symbols STM32F103C8T6 to STM32L431RBT6]

## STM32F103C8T6
designator U
ST-MCU
footprint LQFP_48_7X7
pins: 1 VBAT, 2 PC13-TAMPER-RTC, 3 PC14-OSC32_IN, 4 PC15-OSC32_OUT, 5 PD0-OSC_IN, 6 PD1-OSC_OUT, 7 NRST, 8 VSSA, 9 VDDA, 10 PA0-WKUP, 11 PA1, 12 PA2, 13 PA3, 14 PA4, 15 PA5, 16 PA6, 17 PA7, 18 PB0, 19 PB1, 20 PB2, 21 PB10, 22 PB11, 23 VSS_1, 24 VDD_1, 25 PB12, 26 PB13, 27 PB14, 28 PB15, 29 PA8, 30 PA9, 31 PA10, 32 PA11, 33 PA12, 34 PA13, 35 VSS_2, 36 VDD_2, 37 PA14, 38 PA15, 39 PB3, 40 PB4, 41 PB5, 42 PB6, 43 PB7, 44 BOOT0, 45 PB8, 46 PB9, 47 VSS_3, 48 VDD_3
text: STM32F103C8

## STM32F103RC
designator U
ST-MCU
footprint LQFP_64_10X10
pins: 1 VBAT, 2 PC13-TAMPER-RTC, 3 PC14-OSC32_IN, 4 PC15-OSC32_OUT, 5 OSC_IN, 6 OSC_OUT, 7 NRST, 8 PC0, 9 PC1, 10 PC2, 11 PC3, 12 VSSA, 13 VDDA, 14 PA0-WKUP, 15 PA1, 16 PA2, 17 PA3, 18 VSS_4, 19 VDD_4, 20 PA4, 21 PA5, 22 PA6, 23 PA7, 24 PC4, 25 PC5, 26 PB0, 27 PB1, 28 PB2, 29 PB10, 30 PB11, 31 VSS_1, 32 VDD_1, 33 PB12, 34 PB13, 35 PB14, 36 PB15, 37 PC6, 38 PC7, 39 PC8, 40 PC9, 41 PA8, 42 PA9, 43 PA10, 44 PA11, 45 PA12, 46 PA13, 47 VSS_2, 48 VDD_2, 49 PA14, 50 PA15, 51 PC10, 52 PC11, 53 PC12, 54 PD2, 55 PB3, 56 PB4, 57 PB5, 58 PB6, 59 PB7, 60 BOOT0, 61 PB8, 62 PB9, 63 VSS_3, 64 VDD_3

## STM32F103ZET6
designator U
ST-MCU
footprint LQFP_144_20X20
part A pins: 1 PE2, 2 PE3, 3 PE4, 4 PE5, 5 PE6, 7 PC13-TAMPER-RTC(5), 8 PC14-OSC32_IN(5), 9 PC15-OSC32_OUT(5), 10 PF0, 11 PF1, 12 PF2, 13 PF3, 14 PF4, 15 PF5, 18 PF6, 19 PF7, 20 PF8, 21 PF9, 22 PF10, 23 OSC_IN, 24 OSC_OUT, 25 NRST, 26 PC0, 27 PC1, 28 PC2, 29 PC3, 34 PA0-WKUP, 35 PA1, 36 PA2, 37 PA3, 40 PA4, 41 PA5, 42 PA6, 43 PA7, 44 PC4, 45 PC5, 46 PB0, 47 PB1, 48 PB2, 49 PF11, 50 PF12, 53 PF13, 54 PF14, 55 PF15, 56 PG0, 57 PG1, 58 PE7, 59 PE8, 60 PE9, 63 PE10, 64 PE11, 65 PE12, 66 PE13, 67 PE14, 68 PE15, 69 PB10, 70 PB11, 73 PB12, 74 PB13, 75 PB14, 76 PB15, 77 PD8, 78 PD9, 79 PD10, 80 PD11, 81 PD12, 82 PD13, 85 PD14, 86 PD15, 87 PG2, 88 PG3, 89 PG4, 90 PG5, 91 PG6, 92 PG7, 93 PG8, 96 PC6, 97 PC7, 98 PC8, 99 PC9, 100 PA8, 101 PA9, 102 PA10, 103 PA11, 104 PA12, 105 PA13, 109 PA14, 110 PA15, 111 PC10, 112 PC11, 113 PC12, 114 PD0, 115 PD1, 116 PD2, 117 PD3, 118 PD4, 119 PD5, 122 PD6, 123 PD7, 124 PG9, 125 PG10, 126 PG11, 127 PG12, 128 PG13, 129 PG14, 132 PG15, 133 PB3, 134 PB4, 135 PB5, 136 PB6, 137 PB7, 139 PB8, 140 PB9, 141 PE0, 142 PE1
part B pins: 6 VBAT, 16 VSS_5, 17 VDD_5, 30 VSSA, 31 VREF-, 32 VREF+, 33 VDDA, 38 VSS_4, 39 VDD_4, 51 VSS_6, 52 VDD_6, 61 VSS_7, 62 VDD_7, 71 VSS_1, 72 VDD_1, 83 VSS_8, 84 VDD_8, 94 VSS_9, 95 VDD_9, 106 Not connected, 107 VSS_2, 108 VDD_2, 120 VSS_10, 121 VDD_10, 130 VSS_11, 131 VDD_11, 138 BOOT0, 143 VSS_3, 144 VDD_3

## STM32F407VE
designator U?
ST-MCU
footprint LQFP_100_14X14
part A pins: 1 PE2, 2 PE3, 3 PE4, 4 PE5, 5 PE6, 7 PC13, 15 PC0, 16 PC1, 17 PC2, 18 PC3, 23 PA0/WKUP, 24 PA1, 25 PA2, 26 PA3, 29 PA4, 30 PA5, 31 PA6, 32 PA7, 33 PC4, 34 PC5, 35 PB0, 36 PB1, 37 PB2/BOOT1, 38 PE7, 39 PE8, 40 PE9, 41 PE10, 42 PE11, 43 PE12, 44 PE13, 45 PE14, 46 PE15, 47 PB10, 48 PB11, 51 PB12, 52 PB13, 53 PB14, 54 PB15, 55 PD8, 56 PD9, 57 PD10, 58 PD11, 59 PD12, 60 PD13, 61 PD14, 62 PD15, 63 PC6, 64 PC7, 65 PC8, 66 PC9, 67 PA8, 68 PA9, 69 PA10, 70 PA11, 71 PA12, 72 PA13, 76 PA14, 77 PA15, 78 PC10, 79 PC11, 80 PC12, 81 PD0, 82 PD1, 83 PD2, 84 PD3, 85 PD4, 86 PD5, 87 PD6, 88 PD7, 89 PB3, 90 PB4, 91 PB5, 92 PB6, 93 PB7, 95 PB8, 96 PB9, 97 PE0, 98 PE1
part B pins: 6 VBAT, 8 OSC32_IN, 9 OSC32_OUT, 10 VSS, 11 VDD, 12 OSC_IN, 13 OSC_OUT, 14 NRST, 19 VDD, 20 VSSA, 21 VREF+, 22 VDDA, 27 VSS, 28 VDD, 49 VCAP_1, 50 VDD, 73 VCAP_2, 74 VSS, 75 VDD, 94 BOOT0, 99 VSS, 100 VDD

## STM32F446RC
designator U
ST-MCU C69336
part A pins: 2 PC13, 3 PC14-OSC32_IN, 4 PC15-OSC32_OUT, 5 PH0-OSC_IN, 6 PH1-OSC_OUT, 7 NRST, 8 PC0, 9 PC1, 10 PC2, 11 PC3, 14 PA0-WKUP, 15 PA1, 16 PA2, 17 PA3, 20 PA4, 21 PA5, 22 PA6, 23 PA7, 24 PC4, 25 PC5, 26 PB0, 27 PB1, 28 PB2-BOOT1, 29 PB10, 33 PB12, 34 PB13, 35 PB14, 36 PB15, 37 PC6, 38 PC7, 39 PC8, 40 PC9, 41 PA8, 42 PA9, 43 PA10, 44 PA11, 45 PA12, 46 PA13, 49 PA14, 50 PA15, 51 PC10, 52 PC11, 53 PC12, 54 PD2, 55 PB3, 56 PB4, 57 PB5, 58 PB6, 59 PB7, 60 BOOT0, 61 PB8, 62 PB9
part B pins: 1 VBAT, 12 VSSA, 13 VDDA, 18 VSS, 19 VDD, 30 VCAP_1, 31 VSS, 32 VDD, 47 VSS, 48 VDD, 63 VSS, 64 VDD

## STM32G0B0CETx
designator U?
footprint LQFP_48_7X7
footprint LQFP_48_7X7
part A pins: 1 PC13, 2 PC14, 3 PC15, 8 PF0, 9 PF1, 11 PA0, 12 PA1, 13 PA2, 14 PA3, 15 PA4, 16 PA5, 17 PA6, 18 PA7, 19 PB0, 20 PB1, 21 PB2, 22 PB10, 23 PB11, 24 PB12, 25 PB13, 26 PB14, 27 PB15, 28 PA8, 29 PA9, 30 PC6, 31 PC7, 32 PA10, 33 PA11, 34 PA12, 35 PA13, 36 PA14, 37 PA15, 38 PD0, 39 PD1, 40 PD2, 41 PD3, 42 PB3, 43 PB4, 44 PB5, 45 PB6, 46 PB7, 47 PB8, 48 PB9
part B pins: 4 VBAT, 5 VREF+, 6 VDD, 7 VSS, 10 RESET

## STM32G070RB
designator U?
ST-MCU C529340
footprint LQFP_64_10X10
part A pins: 1 PC11 (io), 2 PC12 (io), 3 PC13 (io), 4 PC14 (io), 5 PC15 (io), 10 PF0 (io), 11 PF1 (io), 13 PC0 (io), 14 PC1 (io), 15 PC2 (io), 16 PC3 (io), 17 PA0 (io), 18 PA1 (io), 19 PA2 (io), 20 PA3 (io), 21 PA4 (io), 22 PA5 (io), 23 PA6 (io), 24 PA7 (io), 25 PC4 (io), 26 PC5 (io), 27 PB0 (io), 28 PB1 (io), 29 PB2 (io), 30 PB10 (io), 31 PB11 (io), 32 PB12 (io), 33 PB13 (io), 34 PB14 (io), 35 PB15 (io), 36 PA8 (io), 37 PA9 (io), 38 PC6 (io), 39 PC7 (io), 40 PD8 (io), 41 PD9 (io), 42 PA10 (io), 43 PA11 (io), 44 PA12 (io), 45 PA13 (io), 46 PA14 (io), 47 PA15 (io), 48 PC8 (io), 49 PC9 (io), 50 PD0 (io), 51 PD1 (io), 52 PD2 (io), 53 PD3 (io), 54 PD4 (io), 55 PD5 (io), 56 PD6 (io), 57 PB3 (io), 58 PB4 (io), 59 PB5 (io), 60 PB6 (io), 61 PB7 (io), 62 PB8 (io), 63 PB9 (io), 64 PC10 (io)
part B pins: 6 VBAT (power), 7 VREF+ (power), 8 VDD/VDDA (power), 9 VSS/VSSA (power), 12 NRST (power)
part A text: LQFP64

## STM32L431RBT6
designator U
ST-MCU C118213
footprint LQFP_64_10X10
part A pins: 2 PC13, 3 PC14-OSC32_IN, 4 PC15-OSC32_OUT, 5 PH0-OSC_IN, 6 PH1-OSC_OUT, 7 NRST, 8 PC0, 9 PC1, 10 PC2, 11 PC3, 14 PA0, 15 PA1, 16 PA2, 17 PA3, 20 PA4, 21 PA5, 22 PA6, 23 PA7, 24 PC4, 25 PC5, 26 PB0, 27 PB1, 28 PB2, 29 PB10, 30 PB11, 33 PB12, 34 PB13, 35 PB14, 36 PB15, 37 PC6, 38 PC7, 39 PC8, 40 PC9, 41 PA8, 42 PA9, 43 PA10, 44 PA11, 45 PA12, 46 PA13, 49 PA14, 50 PA15, 51 PC10, 52 PC11, 53 PC12, 54 PD2, 55 PB3, 56 PB4, 57 PB5, 58 PB6, 59 PB7, 60 PH3/BOOT0, 61 PB8, 62 PB9
part B pins: 1 VBAT, 12 VSSA/VREF-, 13 VDDA/VREF+, 18 VSS, 19 VDD, 31 VSS, 32 VDD, 47 VSS, 48 VDD, 63 VSS, 64 VDD

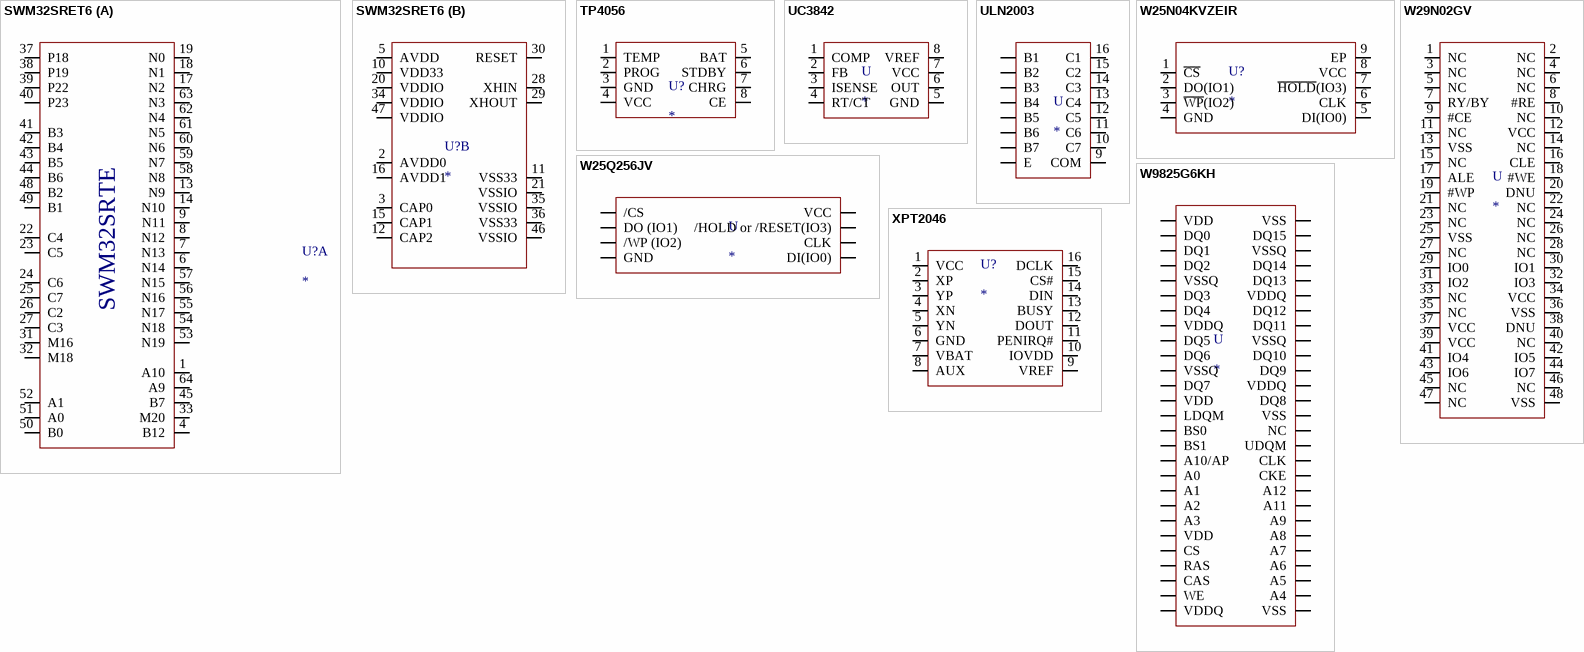
[diagram p4: symbols SWM32SRET6 to XPT2046]

## SWM32SRET6
designator U?
footprint LQFP_64_10X10
part A pins: 1 A10, 4 B12, 6 N14, 7 N13, 8 N12, 9 N11, 13 N9, 14 N10, 17 N2, 18 N1, 19 N0, 22 C4, 23 C5, 24 C6, 25 C7, 26 C2, 27 C3, 31 M16, 32 M18, 33 M20, 37 P18, 38 P19, 39 P22, 40 P23, 41 B3, 42 B4, 43 B5, 44 B6, 45 B7, 48 B2, 49 B1, 50 B0, 51 A0, 52 A1, 53 N19, 54 N18, 55 N17, 56 N16, 57 N15, 58 N8, 59 N7, 60 N6, 61 N5, 62 N4, 63 N3, 64 A9
part B pins: 2 AVDD0, 3 CAP0, 5 AVDD, 10 VDD33, 11 VSS33, 12 CAP2, 15 CAP1, 16 AVDD1, 20 VDDIO, 21 VSSIO, 28 XHIN, 29 XHOUT, 30 RESET, 34 VDDIO, 35 VSSIO, 36 VSS33, 46 VSSIO, 47 VDDIO
part A text: SWM32SRTE

## TP4056
designator U?
footprint TSOP-8 (TSOP, 8-Leads, Body 4.90x3.90mm, Pitch 1.27mm, IPC Medium Density)
pins: 1 TEMP, 2 PROG, 3 GND, 4 VCC, 5 BAT, 6 STDBY, 7 CHRG, 8 CE

## UC3842
designator U
pins: 1 COMP, 2 FB, 3 ISENSE, 4 RT/CT, 5 GND, 6 OUT, 7 VCC, 8 VREF

## ULN2003
designator U
达林顿管
pins: 1 B1, 2 B2, 3 B3, 4 B4, 5 B5, 6 B6, 7 B7, 8 E, 9 COM, 10 C7, 11 C6, 12 C5, 13 C4, 14 C3, 15 C2, 16 C1

## W25N04KVZEIR
designator U?
华邦 NAND FLASH
footprint WSON-8(6x8)
pins: 1 ~{CS}, 2 DO(IO1), 3 ~{WP}(IO2), 4 GND, 5 DI(IO0), 6 CLK, 7 ~{HOLD}(IO3), 8 VCC, 9 EP

## W25Q256JV
designator U
NOR-FLASH
footprint SOIC_208mil (SOIC, 8-Leads, Body 5.28x5.28mm, Pitch 1.27mm, IPC Medium Density)
pins: 1 /CS, 2 DO (IO1), 3 /WP (IO2), 4 GND, 5 DI(IO0), 6 CLK, 7 /HOLD or /RESET(IO3), 8 VCC

## W29N02GV
designator U
NANDFLSH-2G
pins: 1 NC, 2 NC, 3 NC, 4 NC, 5 NC, 6 NC, 7 RY/BY, 8 #RE, 9 #CE, 10 NC, 11 NC, 12 VCC, 13 VSS, 14 NC, 15 NC, 16 CLE, 17 ALE, 18 #WE, 19 #WP, 20 DNU, 21 NC, 22 NC, 23 NC, 24 NC, 25 VSS, 26 NC, 27 NC, 28 NC, 29 IO0, 30 IO1, 31 IO2, 32 IO3, 33 NC, 34 VCC, 35 NC, 36 VSS, 37 VCC, 38 DNU, 39 VCC, 40 NC, 41 IO4, 42 IO5, 43 IO6, 44 IO7, 45 NC, 46 NC, 47 NC, 48 VSS

## W9825G6KH
designator U
SDRAM
footprint TSSOP_54 (TSOP, 54-Leads, Body 22.22x10.16mm, Pitch 0.80mm, IPC Medium Density)
pins: 1 VDD, 2 DQ0, 3 DQ1, 4 DQ2, 5 VSSQ, 6 DQ3, 7 DQ4, 8 VDDQ, 9 DQ5, 10 DQ6, 11 VSSQ, 12 DQ7, 13 VDD, 14 LDQM, 15 BS0, 16 BS1, 17 A10/AP, 18 A0, 19 A1, 20 A2, 21 A3, 22 VDD, 23 CS, 24 RAS, 25 CAS, 26 WE, 27 VDDQ, 28 VSS, 29 A4, 30 A5, 31 A6, 32 A7, 33 A8, 34 A9, 35 A11, 36 A12, 37 CKE, 38 CLK, 39 UDQM, 40 NC, 41 VSS, 42 DQ8, 43 VDDQ, 44 DQ9, 45 DQ10, 46 VSSQ, 47 DQ11, 48 DQ12, 49 VDDQ, 50 DQ13, 51 DQ14, 52 VSSQ, 53 DQ15, 54 VSS

## XPT2046
designator U?
触摸IC 立创商城-C19076
footprint TSSOP_16 (0.65)
pins: 1 VCC, 2 XP, 3 YP, 4 XN, 5 YN, 6 GND, 7 VBAT, 8 AUX, 9 VREF, 10 IOVDD, 11 PENIRQ#, 12 DOUT, 13 BUSY, 14 DIN, 15 CS#, 16 DCLK